# Altium schematic symbol library sion.SchLib: 23 symbols
Pins are listed as number, name and electrical type; pins without a type are passive.

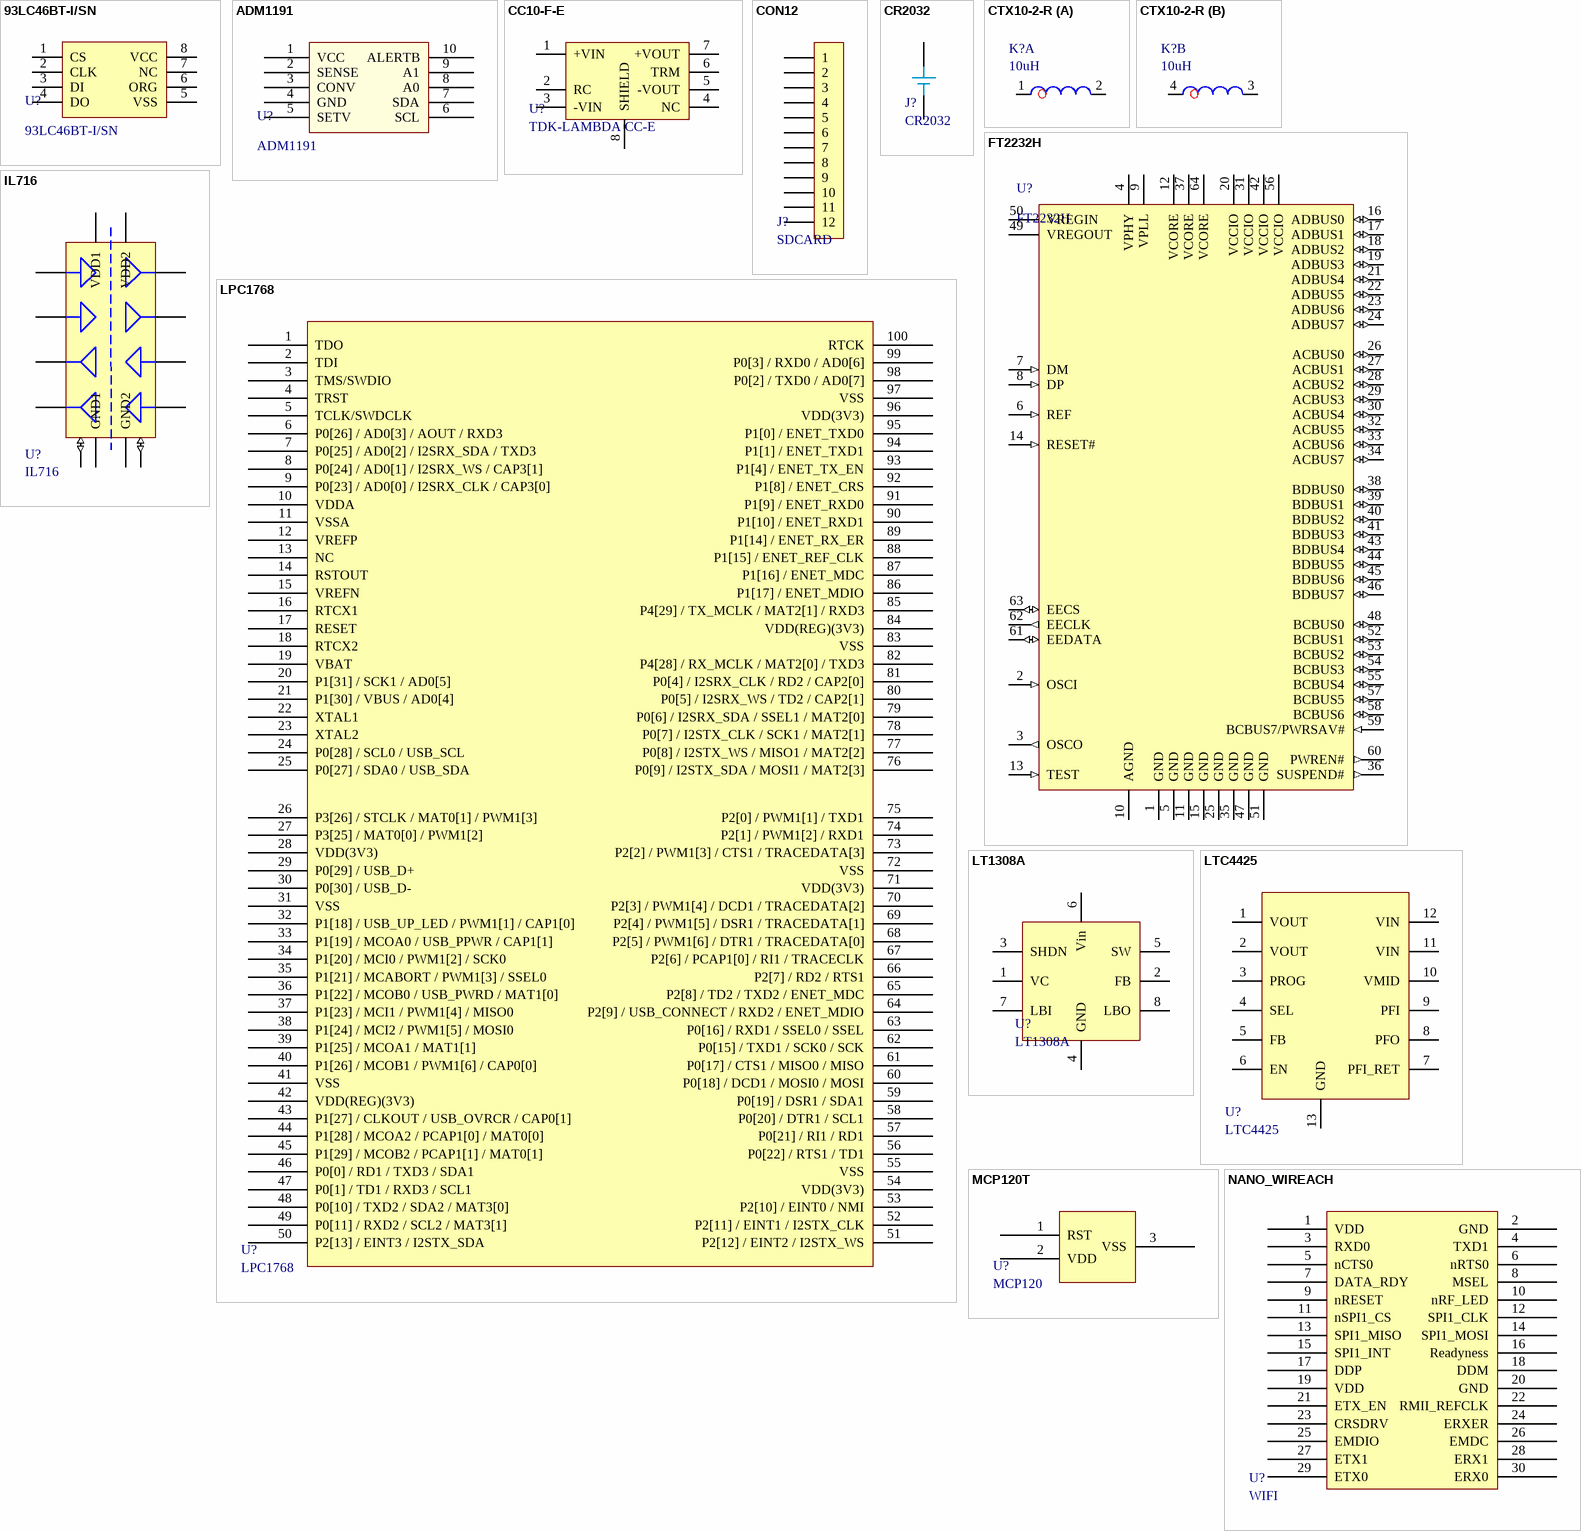
[diagram p0: symbols 93LC46BT-I/SN to NANO_WIREACH]

## 93LC46BT-I/SN
designator U?
Serial EEPROM; Digikey: 93LC46BT-I/SNCT-ND
footprint SO8
pins: 1 CS, 2 CLK, 3 DI, 4 DO, 5 VSS, 6 ORG, 7 NC, 8 VCC

## ADM1191
designator U?
Digital I2C Power Monitor; Digikey: ADM1191-2ARMZ-R7CT-ND; DigikeyPrice: 4.92
footprint MSOP10 (ADM1191)
pins: 1 VCC, 2 SENSE, 3 CONV, 4 GND, 5 SETV, 6 SCL, 7 SDA, 8 A0, 9 A1, 10 ALERTB

## CC10-F-E
designator U?, comment TDK-LAMBDA CC-E
Isolated DC-DC Converter; Digikey: 445-2435-ND; Farnell: 1547717
footprint CC10-F-E
pins: 1 +VIN, 2 RC, 3 -VIN, 4 NC, 5 -VOUT, 6 TRM, 7 +VOUT, 8 SHIELD

## CON12
designator J?, comment SDCARD
SD Card Connector w/ Sense; Farnell: 1788476; FarnellPrice: 4.78; Digikey: 101-00405-75-ND; DigikeyPrice: 2.67
footprint SDCARD_AMPHENOL (101-00405-75)
pins: 1, 2, 3, 4, 5, 6, 7, 8, 9, 10, 11, 12

## CR2032
designator J?
Battery Coin CR2032 3V; Farnell: 1216359; Farnellprice: 3.97
footprint CR2032_VERTICAL (VBH2032-1-LF Coin cell vertical holder)
pins: 1 3V, 2

## CTX10-2-R
designator K?, comment 10uH
Coupled Power Inductor; Farnell: 9457771; Price: 10.31
footprint CTX2 (Coupled Inductors)
part A pins: 1, 2
part B pins: 3, 4

## FT2232H
designator U?
Dual USB to UART/FIFO; Digikey: 768-1024-1-ND; Farnell: 1697461
footprint QFP64
pins: 1 GND (power), 2 OSCI (in), 3 OSCO (out), 4 VPHY (power), 5 GND (power), 6 REF (in), 7 DM (in), 8 DP (in), 9 VPLL (power), 10 AGND (power), 11 GND (power), 12 VCORE (power), 13 TEST (in), 14 RESET# (in), 15 GND (power), 16 ADBUS0 (io), 17 ADBUS1 (io), 18 ADBUS2 (io), 19 ADBUS3 (io), 20 VCCIO (power), 21 ADBUS4 (io), 22 ADBUS5 (io), 23 ADBUS6 (io), 24 ADBUS7 (io), 25 GND (power), 26 ACBUS0 (io), 27 ACBUS1 (io), 28 ACBUS2 (io), 29 ACBUS3 (io), 30 ACBUS4 (io), 31 VCCIO (power), 32 ACBUS5 (io), 33 ACBUS6 (io), 34 ACBUS7 (io), 35 GND (power), 36 SUSPEND# (out), 37 VCORE (power), 38 BDBUS0 (io), 39 BDBUS1 (io), 40 BDBUS2 (io), 41 BDBUS3 (io), 42 VCCIO (power), 43 BDBUS4 (io), 44 BDBUS5 (io), 45 BDBUS6 (io), 46 BDBUS7 (io), 47 GND (power), 48 BCBUS0 (io), 49 VREGOUT (power), 50 VREGIN (power), 51 GND (power), 52 BCBUS1 (io), 53 BCBUS2 (io), 54 BCBUS3 (io), 55 BCBUS4 (io), 56 VCCIO (power), 57 BCBUS5 (io), 58 BCBUS6 (io), 59 BCBUS7/PWRSAV# (in), 60 PWREN# (out), 61 EEDATA (io), 62 EECLK (out), 63 EECS (io), 64 VCORE (power)

## IL716
designator U?
2Tx 2Rx Digital Isolator; Farnell: 9570640; FarnellPrice: 24.61; Digikey: 390-1065-5-ND; DigikeyPrice: 7.70
footprint SO16
pins: 1 VDD1, 2 GND1, 3 IN1, 4 IN2, 5 IN3, 6 OUT4, 8 GND1 (io), 9 GND2 (io), 11 IN4, 12 OUT3, 13 OUT2, 14 OUT1, 15 GND2, 16 VDD2

## LPC1768
designator U?
NXP Cortex-M3 Microcontroller, 100pin 100MHz
footprint QFP100
pins: 1 TDO, 2 TDI, 3 TMS/SWDIO, 4 TRST, 5 TCLK/SWDCLK, 6 P0[26] / AD0[3] / AOUT / RXD3, 7 P0[25] / AD0[2] / I2SRX_SDA / TXD3, 8 P0[24] / AD0[1] / I2SRX_WS / CAP3[1], 9 P0[23] / AD0[0] / I2SRX_CLK / CAP3[0], 10 VDDA, 11 VSSA, 12 VREFP, 13 NC, 14 RSTOUT, 15 VREFN, 16 RTCX1, 17 RESET, 18 RTCX2, 19 VBAT, 20 P1[31] / SCK1 / AD0[5], 21 P1[30] / VBUS / AD0[4], 22 XTAL1, 23 XTAL2, 24 P0[28] / SCL0 / USB_SCL, 25 P0[27] / SDA0 / USB_SDA, 26 P3[26] / STCLK / MAT0[1] / PWM1[3], 27 P3[25] / MAT0[0] / PWM1[2], 28 VDD(3V3), 29 P0[29] / USB_D+, 30 P0[30] / USB_D-, 31 VSS, 32 P1[18] / USB_UP_LED / PWM1[1] / CAP1[0], 33 P1[19] / MCOA0 / USB_PPWR / CAP1[1], 34 P1[20] / MCI0 / PWM1[2] / SCK0, 35 P1[21] / MCABORT / PWM1[3] / SSEL0, 36 P1[22] / MCOB0 / USB_PWRD / MAT1[0], 37 P1[23] / MCI1 / PWM1[4] / MISO0, 38 P1[24] / MCI2 / PWM1[5] / MOSI0, 39 P1[25] / MCOA1 / MAT1[1], 40 P1[26] / MCOB1 / PWM1[6] / CAP0[0], 41 VSS, 42 VDD(REG)(3V3), 43 P1[27] / CLKOUT / USB_OVRCR / CAP0[1], 44 P1[28] / MCOA2 / PCAP1[0] / MAT0[0], 45 P1[29] / MCOB2 / PCAP1[1] / MAT0[1], 46 P0[0] / RD1 / TXD3 / SDA1, 47 P0[1] / TD1 / RXD3 / SCL1, 48 P0[10] / TXD2 / SDA2 / MAT3[0], 49 P0[11] / RXD2 / SCL2 / MAT3[1], 50 P2[13] / EINT3 / I2STX_SDA, 51 P2[12] / EINT2 / I2STX_WS, 52 P2[11] / EINT1 / I2STX_CLK, 53 P2[10] / EINT0 / NMI, 54 VDD(3V3), 55 VSS, 56 P0[22] / RTS1 / TD1, 57 P0[21] / RI1 / RD1, 58 P0[20] / DTR1 / SCL1, 59 P0[19] / DSR1 / SDA1, 60 P0[18] / DCD1 / MOSI0 / MOSI, 61 P0[17] / CTS1 / MISO0 / MISO, 62 P0[15] / TXD1 / SCK0 / SCK, 63 P0[16] / RXD1 / SSEL0 / SSEL, 64 P2[9] / USB_CONNECT / RXD2 / ENET_MDIO, 65 P2[8] / TD2 / TXD2 / ENET_MDC, 66 P2[7] / RD2 / RTS1, 67 P2[6] / PCAP1[0] / RI1 / TRACECLK, 68 P2[5] / PWM1[6] / DTR1 / TRACEDATA[0], 69 P2[4] / PWM1[5] / DSR1 / TRACEDATA[1], 70 P2[3] / PWM1[4] / DCD1 / TRACEDATA[2], 71 VDD(3V3), 72 VSS, 73 P2[2] / PWM1[3] / CTS1 / TRACEDATA[3], 74 P2[1] / PWM1[2] / RXD1, 75 P2[0] / PWM1[1] / TXD1, 76 P0[9] / I2STX_SDA / MOSI1 / MAT2[3], 77 P0[8] / I2STX_WS / MISO1 / MAT2[2], 78 P0[7] / I2STX_CLK / SCK1 / MAT2[1], 79 P0[6] / I2SRX_SDA / SSEL1 / MAT2[0], 80 P0[5] / I2SRX_WS / TD2 / CAP2[1], 81 P0[4] / I2SRX_CLK / RD2 / CAP2[0], 82 P4[28] / RX_MCLK / MAT2[0] / TXD3, 83 VSS, 84 VDD(REG)(3V3), 85 P4[29] / TX_MCLK / MAT2[1] / RXD3, 86 P1[17] / ENET_MDIO, 87 P1[16] / ENET_MDC, 88 P1[15] / ENET_REF_CLK, 89 P1[14] / ENET_RX_ER, 90 P1[10] / ENET_RXD1, 91 P1[9] / ENET_RXD0, 92 P1[8] / ENET_CRS, 93 P1[4] / ENET_TX_EN, 94 P1[1] / ENET_TXD1, 95 P1[0] / ENET_TXD0, 96 VDD(3V3), 97 VSS, 98 P0[2] / TXD0 / AD0[7], 99 P0[3] / RXD0 / AD0[6], 100 RTCK

## LT1308A
designator U?
SEPIC Regulator; Digikey: LT1308ACS8#PBF-ND; DigikeyPrice: 6.5; Farnell: 1663406; FarnellPrice: 10.43
footprint SO8
pins: 1 VC, 2 FB, 3 SHDN, 4 GND, 5 SW, 6 Vin, 7 LBI, 8 LBO

## LTC4425
designator U?
Supercapacitor Charger
footprint MS-12 (LTC4425)
pins: 1 VOUT, 2 VOUT, 3 PROG, 4 SEL, 5 FB, 6 EN, 7 PFI_RET, 8 PFO, 9 PFI, 10 VMID, 11 VIN, 12 VIN, 13 GND

## MCP120T
designator U?, comment MCP120
Voltage Supervisor; Farnell: 7940142; FarnellPrice: 0.951
footprint SOT23-3
pins: 1 RST, 2 VDD, 3 VSS

## NANO_WIREACH
designator U?, comment WIFI
ConnectOne Nano WiReach wifi module; Farnell: 1567709
footprint NANO_WIREACH
pins: 1 VDD, 2 GND, 3 RXD0, 4 TXD1, 5 nCTS0, 6 nRTS0, 7 DATA_RDY, 8 MSEL, 9 nRESET, 10 nRF_LED, 11 nSPI1_CS, 12 SPI1_CLK, 13 SPI1_MISO, 14 SPI1_MOSI, 15 SPI1_INT, 16 Readyness, 17 DDP, 18 DDM, 19 VDD, 20 GND, 21 ETX_EN, 22 RMII_REFCLK, 23 CRSDRV, 24 ERXER, 25 EMDIO, 26 EMDC, 27 ETX1, 28 ERX1, 29 ETX0, 30 ERX0

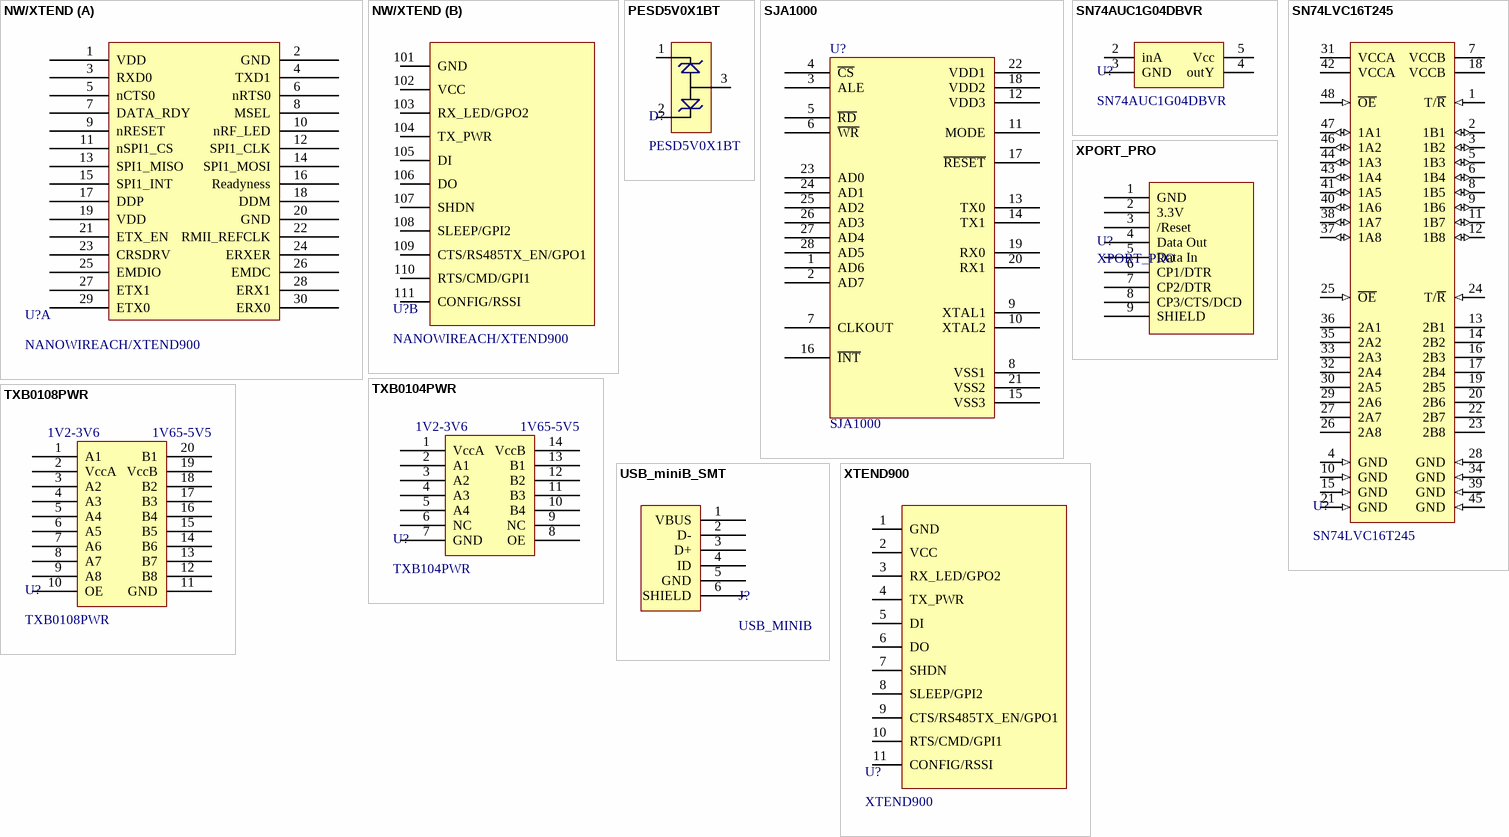
[diagram p1: symbols NW/XTEND to XTEND900]

## NW/XTEND
designator U?, comment NANOWIREACH/XTEND900
Connectone Nano Wireach / Digi Xtend 900; Farnell-XTEND: 1109738; Farnell-NWREACH: 1567709; Digikey-XTEND: 3M1320-ND
footprint NWR-XTEND (Dual footprint Nano Wireach - Digi XTEND)
part A pins: 1 VDD, 2 GND, 3 RXD0, 4 TXD1, 5 nCTS0, 6 nRTS0, 7 DATA_RDY, 8 MSEL, 9 nRESET, 10 nRF_LED, 11 nSPI1_CS, 12 SPI1_CLK, 13 SPI1_MISO, 14 SPI1_MOSI, 15 SPI1_INT, 16 Readyness, 17 DDP, 18 DDM, 19 VDD, 20 GND, 21 ETX_EN, 22 RMII_REFCLK, 23 CRSDRV, 24 ERXER, 25 EMDIO, 26 EMDC, 27 ETX1, 28 ERX1, 29 ETX0, 30 ERX0
part B pins: 101 GND, 102 VCC, 103 RX_LED/GPO2, 104 TX_PWR, 105 DI, 106 DO, 107 SHDN, 108 SLEEP/GPI2, 109 CTS/RS485TX_EN/GPO1, 110 RTS/CMD/GPI1, 111 CONFIG/RSSI

## PESD5V0X1BT
designator D?
5V ESD Low capacitance; Digikey: 568-4676-1-ND
footprint SOT23-3
pins: 1 K, 2 K, 3 A

## SJA1000
designator U?
CAN Controller
footprint SO28(SOT136-1)
pins: 1 AD6, 2 AD7, 3 ALE, 4 ~{CS}, 5 ~{RD}, 6 ~{WR}, 7 CLKOUT, 8 VSS1, 9 XTAL1, 10 XTAL2, 11 MODE, 12 VDD3, 13 TX0, 14 TX1, 15 VSS3, 16 ~{INT}, 17 ~{RESET}, 18 VDD2, 19 RX0, 20 RX1, 21 VSS2, 22 VDD1, 23 AD0, 24 AD1, 25 AD2, 26 AD3, 27 AD4, 28 AD5

## SN74AUC1G04DBVR
designator U?
1.8V Single Inverter Gate; Digikey: 296-13168-1-ND
footprint SOT23-5
pins: 2 inA, 3 GND, 4 outY, 5 Vcc

## SN74LVC16T245
designator U?
16 bit dual supply translator with 3 state buffer
footprint TSSOP48
pins: 1 T/~{R} (in), 2 1B1 (io), 3 1B2 (io), 4 GND (in), 5 1B3 (io), 6 1B4 (io), 7 VCCB (power), 8 1B5 (io), 9 1B6 (io), 10 GND (in), 11 1B7 (io), 12 1B8 (io), 13 2B1, 14 2B2, 15 GND (in), 16 2B3, 17 2B4, 18 VCCB (power), 19 2B5, 20 2B6, 21 GND (in), 22 2B7, 23 2B8, 24 T/~{R} (in), 25 ~{OE} (in), 26 2A8, 27 2A7, 28 GND (in), 29 2A6, 30 2A5, 31 VCCA (power), 32 2A4, 33 2A3, 34 GND (in), 35 2A2, 36 2A1 (power), 37 1A8 (io), 38 1A7 (io), 39 GND (in), 40 1A6 (io), 41 1A5 (io), 42 VCCA (power), 43 1A4 (io), 44 1A3 (io), 45 GND (in), 46 1A2 (io), 47 1A1 (io), 48 ~{OE} (in)

## TXB0104PWR
designator U?, comment TXB104PWR
4 bit bidirectional auto direction sense level translator; Digikey: 296-21929-1-ND
footprint TSSOP14
pins: 1 VccA (power), 2 A1, 3 A2, 4 A3, 5 A4, 6 NC, 7 GND (power), 8 OE, 9 NC, 10 B4, 11 B3, 12 B2, 13 B1, 14 VccB (power)
text: 1V2-3V6; 1V65-5V5

## TXB0108PWR
designator U?
4 bit bidirectional auto direction sense level translator; Digikey: 296-21527-1-ND
footprint TSSOP20
pins: 1 A1, 2 VccA (power), 3 A2, 4 A3, 5 A4, 6 A5, 7 A6 (power), 8 A7, 9 A8, 10 OE, 11 GND, 12 B8, 13 B7, 14 B6 (power), 15 B5, 16 B4, 17 B3, 18 B2, 19 VccB, 20 B1
text: 1V2-3V6; 1V65-5V5

## USB_miniB_SMT
designator J?, comment USB_MINIB
USB Mini B Connector; Farnell: 9786473
footprint USB_MINIB (USB Mini B connector SMT)
pins: 1 VBUS, 2 D-, 3 D+, 4 ID, 5 GND, 6 SHIELD

## XPORT_PRO
designator U?
Lantronix Xport Pro
footprint XPORT PRO (Lantronix Xport Pro)
pins: 1 GND, 2 3.3V, 3 /Reset, 4 Data Out, 5 Data In, 6 CP1/DTR, 7 CP2/DTR, 8 CP3/CTS/DCD, 9 SHIELD

## XTEND900
designator U?
Digi XTEND900 Radio Modem; Sparkfun: WRL-09411; SparkfunPrice: 184.95; Digikey: 3M1320-ND; DigikeyPrice: 2.02
footprint XTEND900 (Digi XTEND900)
pins: 1 GND, 2 VCC, 3 RX_LED/GPO2, 4 TX_PWR, 5 DI, 6 DO, 7 SHDN, 8 SLEEP/GPI2, 9 CTS/RS485TX_EN/GPO1, 10 RTS/CMD/GPI1, 11 CONFIG/RSSI